# Altium footprint library inductor.PcbLib: 15 footprints
Each footprint in its own frame and in the unit in brackets; x right, y up, seen from the top. Pads: shape width x height; smd on the part's side, far side on the other; paste and mask are expansions set on the pad; w line width, h text height; cw(c..) or ccw(c..) is an arc to the next point about the centre after c.
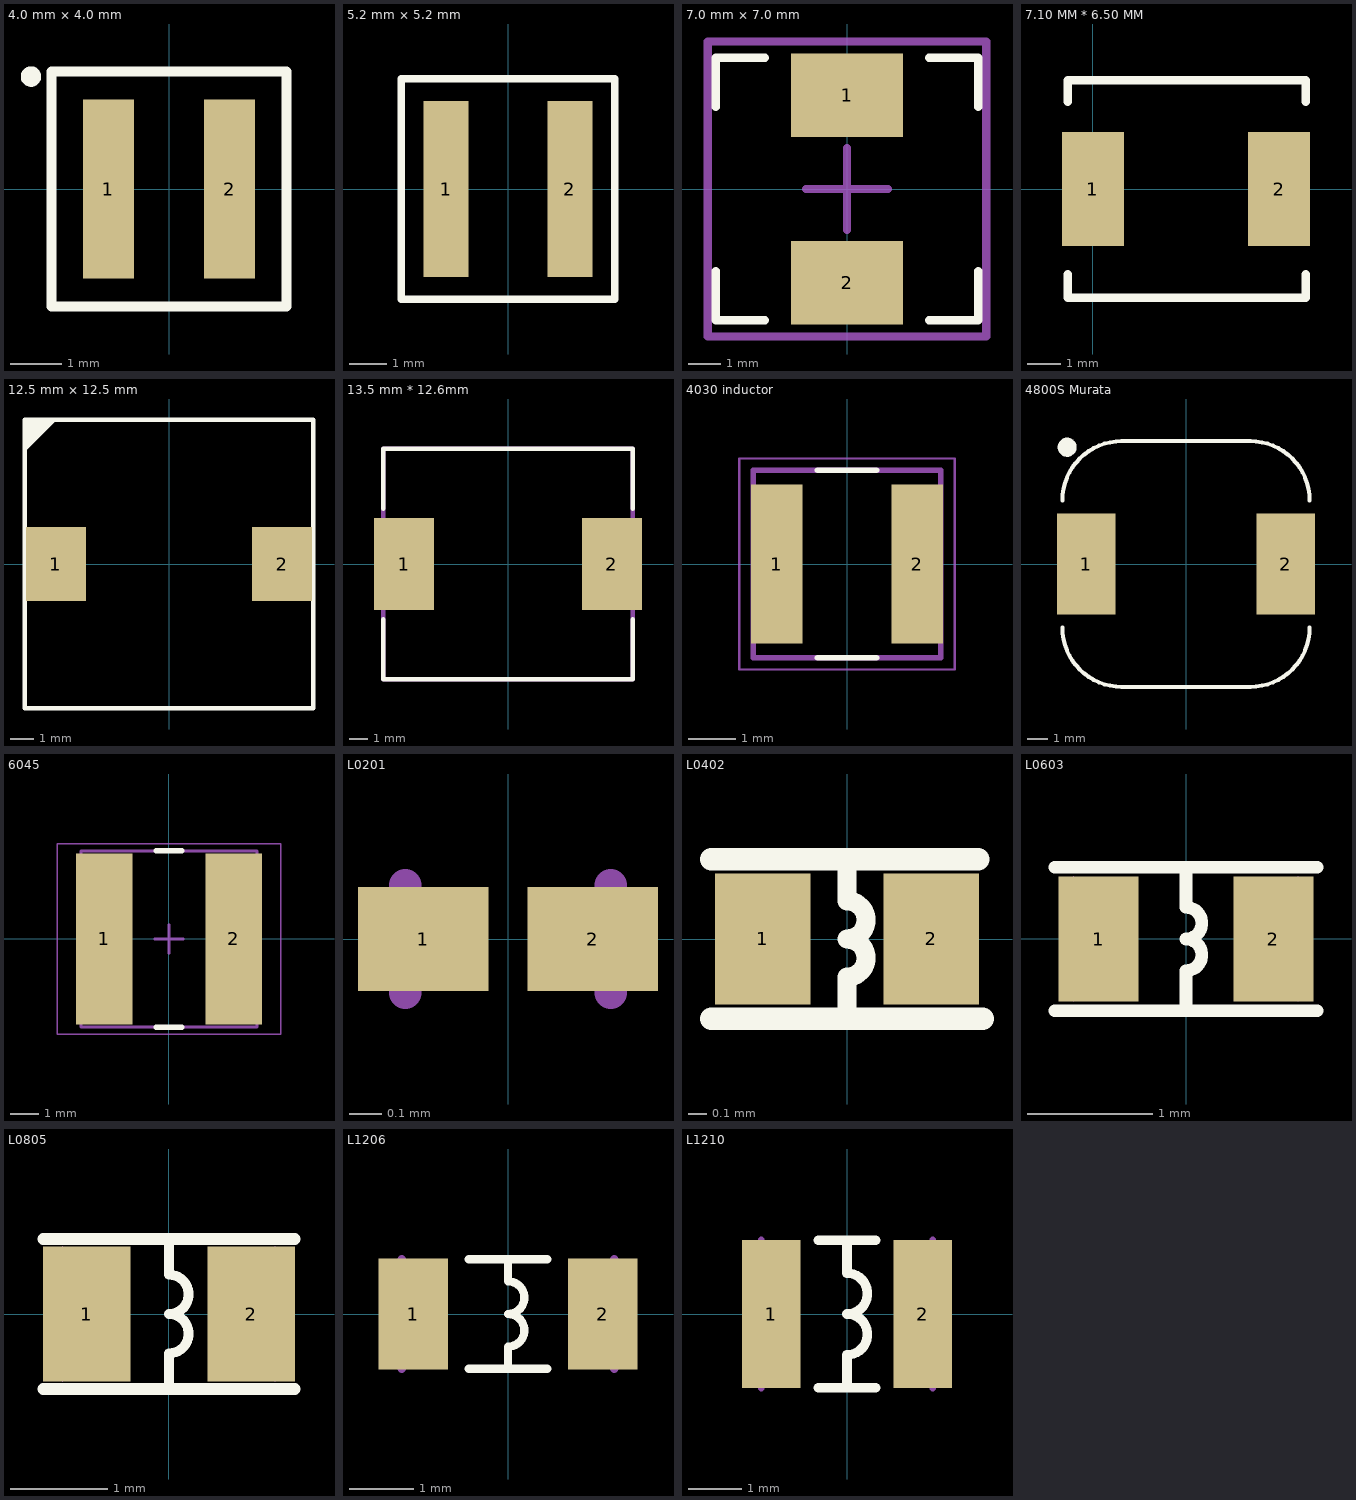
[diagram p0: the footprints below, top view; thin cyan lines are the x and y axes]

## 4.0 mm × 4.0 mm [mm] "AE433PZA Outgassing Compliant Power Inductor"
height 2.1
pads (2):
  rect 1x3.5 smd: 1(-1.185,0) 2(1.185,0)
Top Overlay:
  circle w0.2: c-2.7,2.2 r0.1
  lines w0.2: -2.3,1 -2.3,2.3 2.3,2.3 2.3,-2.3 -2.3,-2.3 -2.3,1.1
3D body "Coilcraft-AE433PZA.step": height 2.1, standoff 0, extent -2.15,-2.15 2.15,2.15

## 5.2 mm × 5.2 mm [mm] "AE486PYA Outgassing Compliant Power Inductor"
height 3.1
pads (2):
  rect 1.2x4.7 smd: 1(-1.655,0) 2(1.655,0)
Top Overlay:
  lines w0.2: -2.85,-2.95 -2.85,2.95 2.85,2.95 2.85,-2.95 -2.85,-2.95
3D body "Coilcraft-AE486PYA.step": height 3, standoff -0.1, extent -2.74,-2.84 2.74,2.84

## 7.0 mm × 7.0 mm [mm] "AE528PMM Coilcraft CPS outgassing compliant power inductors"
height 5
pads (2):
  rect 3.43x2.54 smd: 1(0,2.86) 2(0,-2.86)
Top Overlay:
  lines w0.254: -4,-2.5 -4,-3.75 -4,-4 -3.75,-4 -2.5,-4 ; -4,2.5 -4,3.75 ; -4,3.5 -4,4 -3.5,4 ; -3.75,4 -2.5,4 ; 2.5,-4 3.75,-4 4,-4 4,-3.75 4,-2.5 ; 2.5,4 3.75,4 4,4 4,3.75 4,2.5
Mechanical 15:
  lines w0.254: -1.25,0 0,0 ; 0,-1.25 0,0 ; 0,1.25 0,0 ; 1.25,0 0,0 ; -4.25,-4.5 -4.25,4.5 4.25,4.5 4.25,-4.5 -4.25,-4.5
3D body "Coilcraft-AE528PMM.step": height 4.96, standoff 0, extent -3.745,-3.795 3.745,3.795

## 7.10 MM * 6.50 MM [mm] "SPM6530T.. / Length (L): 7.10 mm ±0.30 mm /  / Width (W): 6.50 mm ±0.30 mm /  / Height (H): 3.00 mm max"
pads (2):
  rect 1.85x3.4 smd: 1(0,0) 2(5.55,0)
Top Overlay:
  lines w0.254: -0.755,-3.25 6.345,-3.25 ; -0.755,3.25 6.345,3.25 ; -0.75,-3.2 -0.75,-2.55 ; -0.75,2.6 -0.75,3.25 ; 6.35,-3.2 6.35,-2.55 ; 6.35,2.6 6.35,3.25

## 12.5 mm × 12.5 mm [mm] "TDK_SLF12575_22uH TDK SLF12575 Power Inductors"
pads (2):
  rect 2.6x3.2 smd: 1(-4.9,0) 2(4.9,0)
Top Overlay:
  region: -6.25,6.25 -6.25,5 -5,6.25
  lines w0.2: -5,6.25 -6.25,5 -6.25,6.25 ; -6.25,6.25 6.25,6.25 6.25,-6.25 -6.25,-6.25 -6.25,6.25
3D body "TDK SLF12575T-220M4R0-PF v9.step": height 7.51, standoff 0, extent -6.25,-6.25 6.25,6.25

## 13.5 mm * 12.6mm [mm] "TMPA1206SP-100MN-D Taitec 13.5x12.6x5.7mm Shielded Power Inductor"
height 5.7
pads (2):
  rect 3.25x5 smd: 1(-5.625,0) 2(5.625,0)
Top Overlay:
  lines w0.254: -6.75,-3 -6.75,-6.25 6.75,-6.25 6.75,-3 ; -6.75,3 -6.75,6.25 6.75,6.25 6.75,3
Mechanical 3:
  lines w0.254: -6.75,-6.25 6.75,-6.25 6.75,6.25 -6.75,6.25 -6.75,-6.25
3D body "TMPA1206SP-100MN-D 10uH Inductor v6.step": height 5.7, standoff 0, extent -6.9,-6.2 6.8,6.4

## 4030 inductor [mm] "Size: 4.0 mm × 4.0 mm × 3.0 mm (L × W × H)"
height 3
pads (2):
  rect 1.1x3.4 smd: 1(-1.5,0) 2(1.5,0)
Top Overlay:
  lines w0.127: -0.63,-2 0.63,-2 ; -0.63,2 0.63,2
Mechanical 13:
  lines w0.127: -2,-2 2,-2 2,2 -2,2 -2,-2
Mechanical 15:
  lines w0.05: -2.3,-2.25 2.3,-2.25 2.3,2.25 -2.3,2.25 -2.3,-2.25
3D body "step_temp.STEP": height 3, standoff 0, extent -2,-2 2,2

## 4800S Murata [mm] "Murata 4800S Power Inductors Length: 12.20 mm ±0.30 mm (0.480 in ±0.012 in) /  / Width: 12.20 mm ±0.30 mm (0.480 in ±0.012 in)"
pads (2):
  rect 2.9x5 smd: 1(-4.95,0) 2(4.95,0)
Top Overlay:
  circle w0.5: c-5.9,5.8 r0.224
  lines w0.2: -6.14,-3.16 ccw(c-3.2,-3.16) -3.2,-6.1 3.2,-6.1 ccw(c3.2,-3.16) 6.14,-3.16 ; -6.14,3.16 cw(c-3.2,3.16) -3.2,6.1 3.2,6.1 cw(c3.2,3.16) 6.14,3.16
3D body "Murata 4800S Power Inductor v10.step": height 6, standoff 0, extent -6.1,-6.1 6.1,6.1

## 6045 [mm] "Package Size: 6.0 mm × 6.0 mm (L × W) /  / Height (H): 4.5 mm (maximum) /  / Mounting Type: Surface-mount (SMD) /  / Core Shape: Shielded, molded construction"
pads (2):
  rect 2x6 smd: 1(-2.275,0) 2(2.275,0)
Top Overlay:
  lines w0.2: -0.45,-3.1 0.45,-3.1 ; -0.45,3.1 0.45,3.1
Mechanical 13:
  lines w0.1: -3.1,-3.1 -3.1,3.1 3.1,3.1 3.1,-3.1 -3.1,-3.1
Mechanical 15:
  lines w0.05: -3.925,-3.35 -3.925,3.35 3.925,3.35 3.925,-3.35 -3.925,-3.35
  lines w0.1: -0.5,0 0.5,0 ; 0,-0.5 0,0.5
3D body "SRN6045 Series.STEP": height 4.5, standoff 0, extent -3.15,-3 3.15,3

## L0201 [mm] "Chip Inductor, 2-Leads, Body 0.60x0.30mm, IPC High Density"
height 0.33
pads (2):
  rect 0.4x0.32 smd: 1(-0.26,0) 2(0.26,0)
Mechanical 13:
  lines w0.1: -0.315,-0.165 -0.315,0.165 ; 0.315,-0.165 0.315,0.165
3D body "RL73N1HR68FTD.STEP": height 0.29, standoff 0.01, extent -0.3,-0.15 0.3,0.15

## L0402 [mm]
pads (2):
  rect 0.51x0.7 smd mask+0.05: 1(-0.45,0) 2(0.45,0)
Top Overlay:
  lines w0.102: 0,-0.425 0,-0.203 ccw(c0,-0.102) 0,0 ccw(c0,0.102) 0,0.203 0,0.413
  lines w0.12: -0.725,-0.425 0.725,-0.425 ; -0.725,0.425 0.7,0.425
Bottom Assembly:
  lines w0.01: -0.45,-0.3 -0.45,0.3 ; 0.45,-0.3 0.45,0.3
3D body "LQG15HH3N3S02D.STEP": height 0.5, standoff 0, extent -0.5,-0.296 0.5,0.254

## L0603 [mm]
pads (2):
  rect 0.64x1 smd mask+0.05: 1(-0.7,0) 2(0.7,0)
Top Overlay:
  lines w0.1: -1.05,-0.575 1.05,-0.575 ; -1.05,0.575 1.05,0.575
  lines w0.102: 0,-0.575 0,-0.254 ccw(c0,-0.127) 0,0 ccw(c0,0.127) 0,0.254 0,0.575
Bottom Assembly:
  lines w0.01: -0.9,-0.5 -0.9,0.5 ; 0.9,-0.5 0.9,0.5
3D body "LQG18HN1N2S00D.STEP": height 0.81, standoff 0.01, extent -0.802,-0.474 0.798,0.476

## L0805 [mm]
pads (2):
  rect 0.9x1.4 smd mask+0.05: 1(-0.85,0) 2(0.85,0)
Top Overlay:
  lines w0.102: 0,-0.775 0,-0.406 ccw(c0,-0.203) 0,0 ccw(c0,0.203) 0,0.406 0,0.775
  lines w0.12: -1.3,-0.775 1.3,-0.775 ; -1.3,0.775 1.3,0.775
Bottom Assembly:
  lines w0.01: -1.1,-0.7 -1.1,0.7 ; 1.1,-0.7 1.1,0.7
3D body "DFE201210U-R68M=P2.STEP": height 1.01, standoff 0.01, extent -1,-0.6 1,0.6

## L1206 [mm]
pads (2):
  rect 1.08x1.72 smd: 1(-1.47,0) 2(1.47,0)
Top Overlay:
  lines w0.127: -0.61,-0.85 0.61,-0.85 ; -0.61,0.85 0.61,0.85 ; 0,-0.85 0,-0.508 ccw(c0,-0.254) 0,0 ccw(c0,0.254) 0,0.508 0,0.85
Mechanical 13:
  lines w0.127: -1.65,-0.85 -1.65,0.85 ; 1.65,-0.85 1.65,0.85
3D body "L-M31PN1R0M00L--3DModel-STEP-231308.STEP": height 0.96, standoff 0.01, extent -1.6,-0.8 1.6,0.8

## L1210 [mm]
pads (2):
  rect 1.1x2.77 smd: 1(-1.413,0) 2(1.413,0)
Top Overlay:
  lines w0.178: -0.54,-1.38 0.54,-1.38 ; -0.54,1.38 0.54,1.38 ; 0,-1.38 0,-0.762 ccw(c0,-0.381) 0,0 ccw(c0,0.381) 0,0.762 0,1.38
Mechanical 13:
  lines w0.127: -1.6,-1.38 -1.6,1.38 ; 1.6,-1.38 1.6,1.38
3D body "DFE322520FD-3R3M-P2--3DModel-STEP-56544.STEP": height 2.01, standoff 0.01, extent -1.6,-1.25 1.6,1.25